# Altium schematic symbol library ERJ-3EKF2403V.SchLib: 1 symbol
Pins are listed as number, name and electrical type; pins without a type are passive.

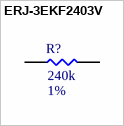
[diagram p0: symbol ERJ-3EKF2403V]

## ERJ-3EKF2403V
designator R?  Resistance: 240k  Tolerance: 1%  (hidden comment: ERJ-3EKF2403V)
RES SMD 240K OHM 1% 1/10W 0603; MFR: Panasonic Electronic Components; Footprint: RES0603; Package: 0603; ComponentLink1Description: Datasheet; Power Rating: 1/10W; Supplier 1: Mouser; Supplier Part Number 1: 667-ERJ-3EKF2403V
footprint RES0603 (Generic 0603)
pins: 1, 2